# Altium footprint library 18259106.PcbLib: 1 footprints
Each footprint in its own frame and in the unit in brackets; x right, y up, seen from the top. Pads: shape width x height; smd on the part's side, far side on the other; paste and mask are expansions set on the pad; w line width, h text height; cw(c..) or ccw(c..) is an arc to the next point about the centre after c.
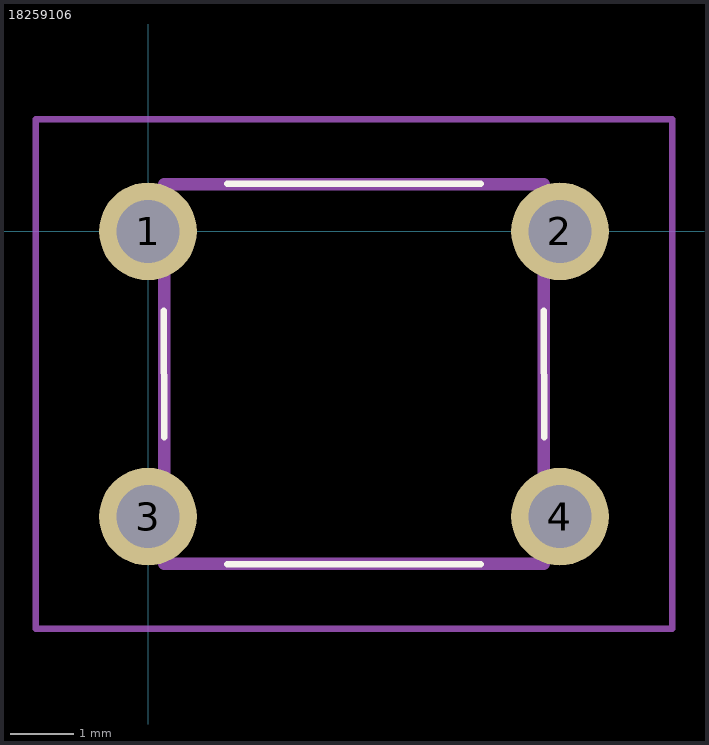
[diagram p0: the footprint, top view; thin cyan lines are the x and y axes]

## 18259106 [mm]
pads (4):
  round 1.54 hole 0.99: 1(0,0) 2(6.5,0) 3(0,-4.5) 4(6.5,-4.5)
Top Overlay:
  lines w0.1: 1.25,-5.25 5.25,-5.25 ; 1.25,0.75 5.25,0.75 ; 6.25,-3.25 6.245,-1.25 ; 0.25,-1.25 0.25,-1.25 ; 0.25,-1.25 0.255,-3.25 ; 0.255,-3.25 0.255,-3.25 ; 6.245,-1.25 6.245,-1.25
Mechanical 15:
  lines w0.2: 0.255,-5.245 6.245,-5.245 6.245,0.745 0.255,0.745 0.255,-5.245
Mechanical 20:
  lines w0.1: -1.77,-6.27 8.27,-6.27 8.27,1.77 -1.77,1.77 -1.77,-6.27